# Altium footprint library Three Terminals THC.PcbLib: 2 footprints
Each footprint in its own frame and in the unit in brackets; x right, y up, seen from the top. Pads: shape width x height; smd on the part's side, far side on the other; paste and mask are expansions set on the pad; w line width, h text height; cw(c..) or ccw(c..) is an arc to the next point about the centre after c.
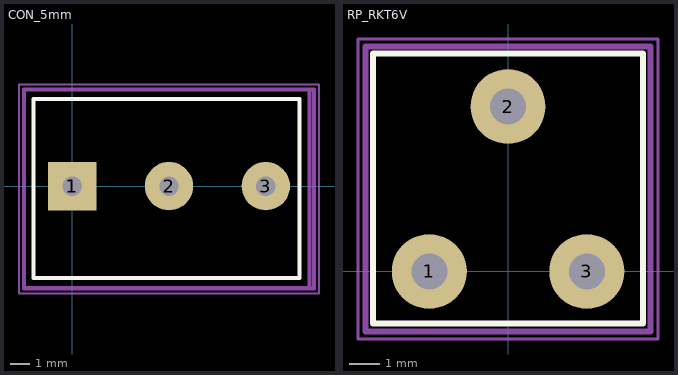
[diagram p0: the footprints below, top view; thin cyan lines are the x and y axes]

## CON_5mm [mm]
pads (4):
  round 2.5 hole 1: 1(0,0) 2(5,0) 3(10,0)
  rect 2.5x2.5 smd: 1(0,0)
Top Overlay:
  lines w0.2: -2,-4.75 11.75,-4.75 11.75,4.5 -2,4.5 -2,-4.75
Mechanical 13:
  lines w0.2: -2.5,-5.3 -2.5,5 12.5,5 12.5,-5.3 -2.5,-5.3
Mechanical 13 (Mech13):
  lines w0.2: -2.5,-5.25 -2.5,5 12.25,5 12.25,-5.25 -2.5,-5.25
Mechanical 15 (Mech15):
  lines w0.1: -2.75,-5.55 -2.75,5.25 12.75,5.25 12.75,-5.55 -2.75,-5.55
3D body "CTB0102_3.stp": height 14, standoff -3.9, extent -2.625,-5.25 12.375,5.05

## RP_RKT6V [mm]
pads (3):
  round 2.5 hole 1.2: 1(-2.625,0) 2(0,5.5) 3(2.625,0)
Top Overlay:
  lines w0.2: -4.503,-1.74 -4.503,7.26 ; -4.503,-1.74 4.497,-1.74 ; -4.503,-1.74 -4.503,7.26 ; -4.503,-1.74 4.497,-1.74 ; -4.503,7.26 4.497,7.26 ; -4.503,7.26 4.497,7.26 ; 4.497,-1.74 4.497,7.26 ; 4.497,-1.74 4.497,7.26
Mechanical 13 (Mech13):
  lines w0.2: -4.75,-2 4.75,-2 4.75,7.5 -4.75,7.5 -4.75,-2
Mechanical 15 (Mech15):
  lines w0.1: -5,-2.25 5,-2.25 5,7.75 -5,7.75 -5,-2.25